# Altium footprint library PCB - CONNECTOR - SAMTEC IPL1-105-01-L-D-RA-K.PCBLIB: 1 footprints
Each footprint in its own frame and in the unit in brackets; x right, y up, seen from the top. Pads: shape width x height; smd on the part's side, far side on the other; paste and mask are expansions set on the pad; w line width, h text height; cw(c..) or ccw(c..) is an arc to the next point about the centre after c.
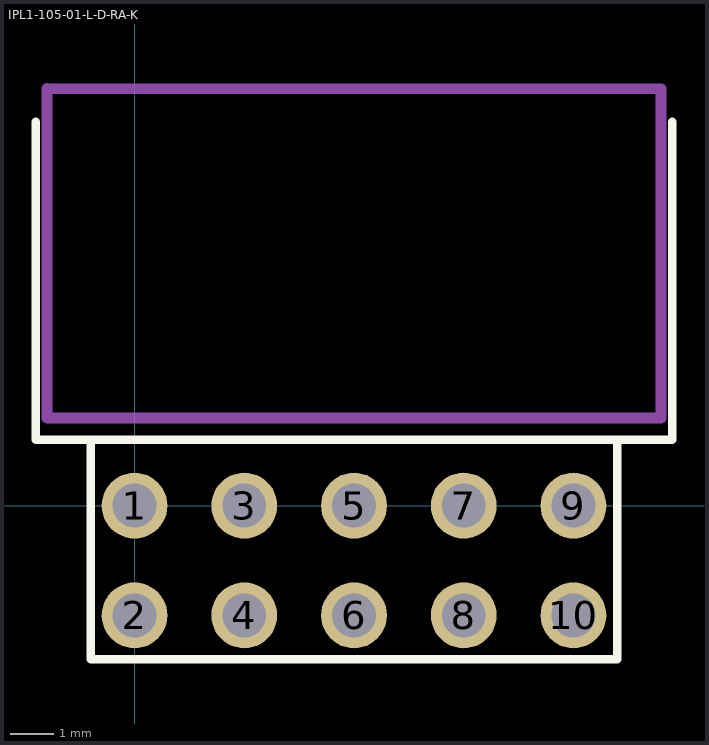
[diagram p0: the footprint, top view; thin cyan lines are the x and y axes]

## IPL1-105-01-L-D-RA-K [mil]
pads (10):
  round 60 hole 40: 1(0,0) 2(0,-100) 3(100,0) 4(100,-100) 5(200,0) 6(200,-100) 7(300,0) 8(300,-100) 9(400,0) 10(400,-100)
Top Overlay:
  lines w8: -90,350 -90,60 490,60 490,350 ; -40,60 -40,-140 440,-140 440,60
M5 Assembly Top:
  lines w10: -80,80 -79.99,380.01 480,380 480,80 -80,80
  text ".Designator" at 114.17,153.54 h60
3D body "IPL1-105-01-L-D-RA-K.stp": height 315, standoff -80, extent -79.99,-112.49 480.01,380.01